# EAGLE library part LTC2497 (library linear)
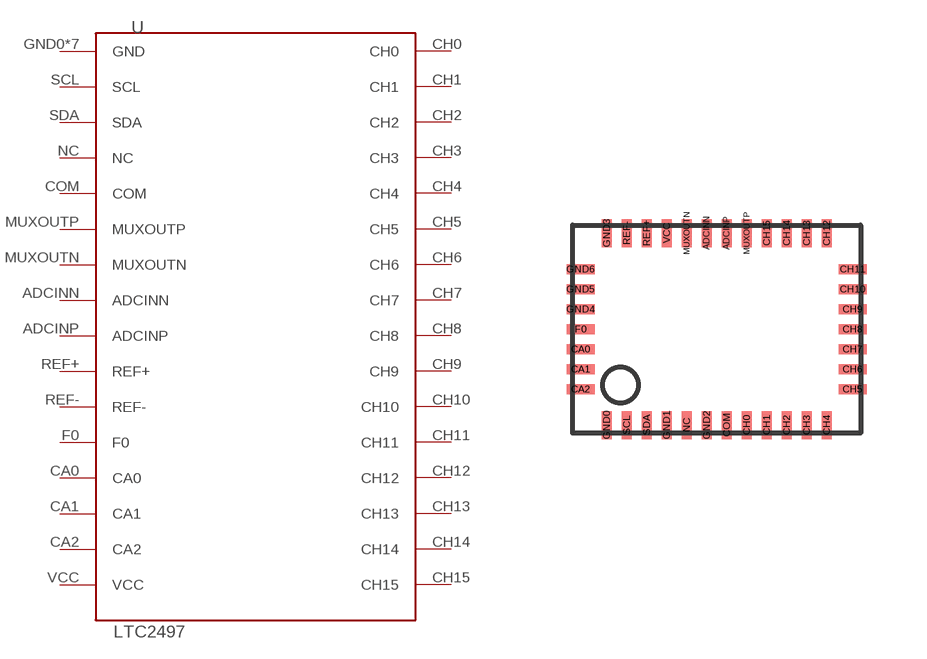
[diagram p317: symbol with the pads of LTC2497-UHF; footprint LTC2497-UHF]

Designator prefix -

## LTC2497UHF  [LTC2497-UHF]
ADCINN  ADCINN
ADCINP  ADCINP
CA0  CA0
CA1  CA1
CA2  CA2
CH0  CH0
CH1  CH1
CH2  CH2
CH3  CH3
CH4  CH4
CH5  CH5
CH6  CH6
CH7  CH7
CH8  CH8
CH9  CH9
CH10  CH10
CH11  CH11
CH12  CH12
CH13  CH13
CH14  CH14
CH15  CH15
COM  COM
F0  F0
GND0  GND
GND1  GND
GND2  GND
GND3  GND
GND4  GND
GND5  GND
GND6  GND
MUXOUTN  MUXOUTN
MUXOUTP  MUXOUTP
NC  NC
REF+  REF+
REF-  REF-
SCL  SCL
SDA  SDA
VCC  VCC

## Footprint LTC2497-UHF (pad centres in mm)
smd 0.25 x 0.7: ADCINN -0.25,2.4; ADCINP 0.25,2.4; CH0 0.75,-2.4; CH1 1.25,-2.4; CH2 1.75,-2.4; CH3 2.25,-2.4; CH4 2.75,-2.4; CH12 2.75,2.4; CH13 2.25,2.4; CH14 1.75,2.4; CH15 1.25,2.4; COM 0.25,-2.4; GND0 -2.75,-2.4; GND1 -1.25,-2.4; GND2 -0.25,-2.4; GND3 -2.75,2.4; MUXOUTN -0.75,2.4; MUXOUTP 0.75,2.4; NC -0.75,-2.4; REF+ -1.75,2.4; REF- -2.25,2.4; SCL -2.25,-2.4; SDA -1.75,-2.4; VCC -1.25,2.4
smd 0.7 x 0.25: CA0 -3.4,-0.5; CA1 -3.4,-1; CA2 -3.4,-1.5; CH5 3.4,-1.5; CH6 3.4,-1; CH7 3.4,-0.5; CH8 3.4,0; CH9 3.4,0.5; CH10 3.4,1; CH11 3.4,1.5; F0 -3.4,0; GND4 -3.4,0.5; GND5 -3.4,1; GND6 -3.4,1.5